# Altium footprint library Connector_PinSocket_2.00mm.PcbLib: 278 footprints (part 12 of 18)
Each footprint in its own frame and in the unit in brackets; x right, y up, seen from the top. Pads: shape width x height; smd on the part's side, far side on the other; paste and mask are expansions set on the pad; w line width, h text height; cw(c..) or ccw(c..) is an arc to the next point about the centre after c.
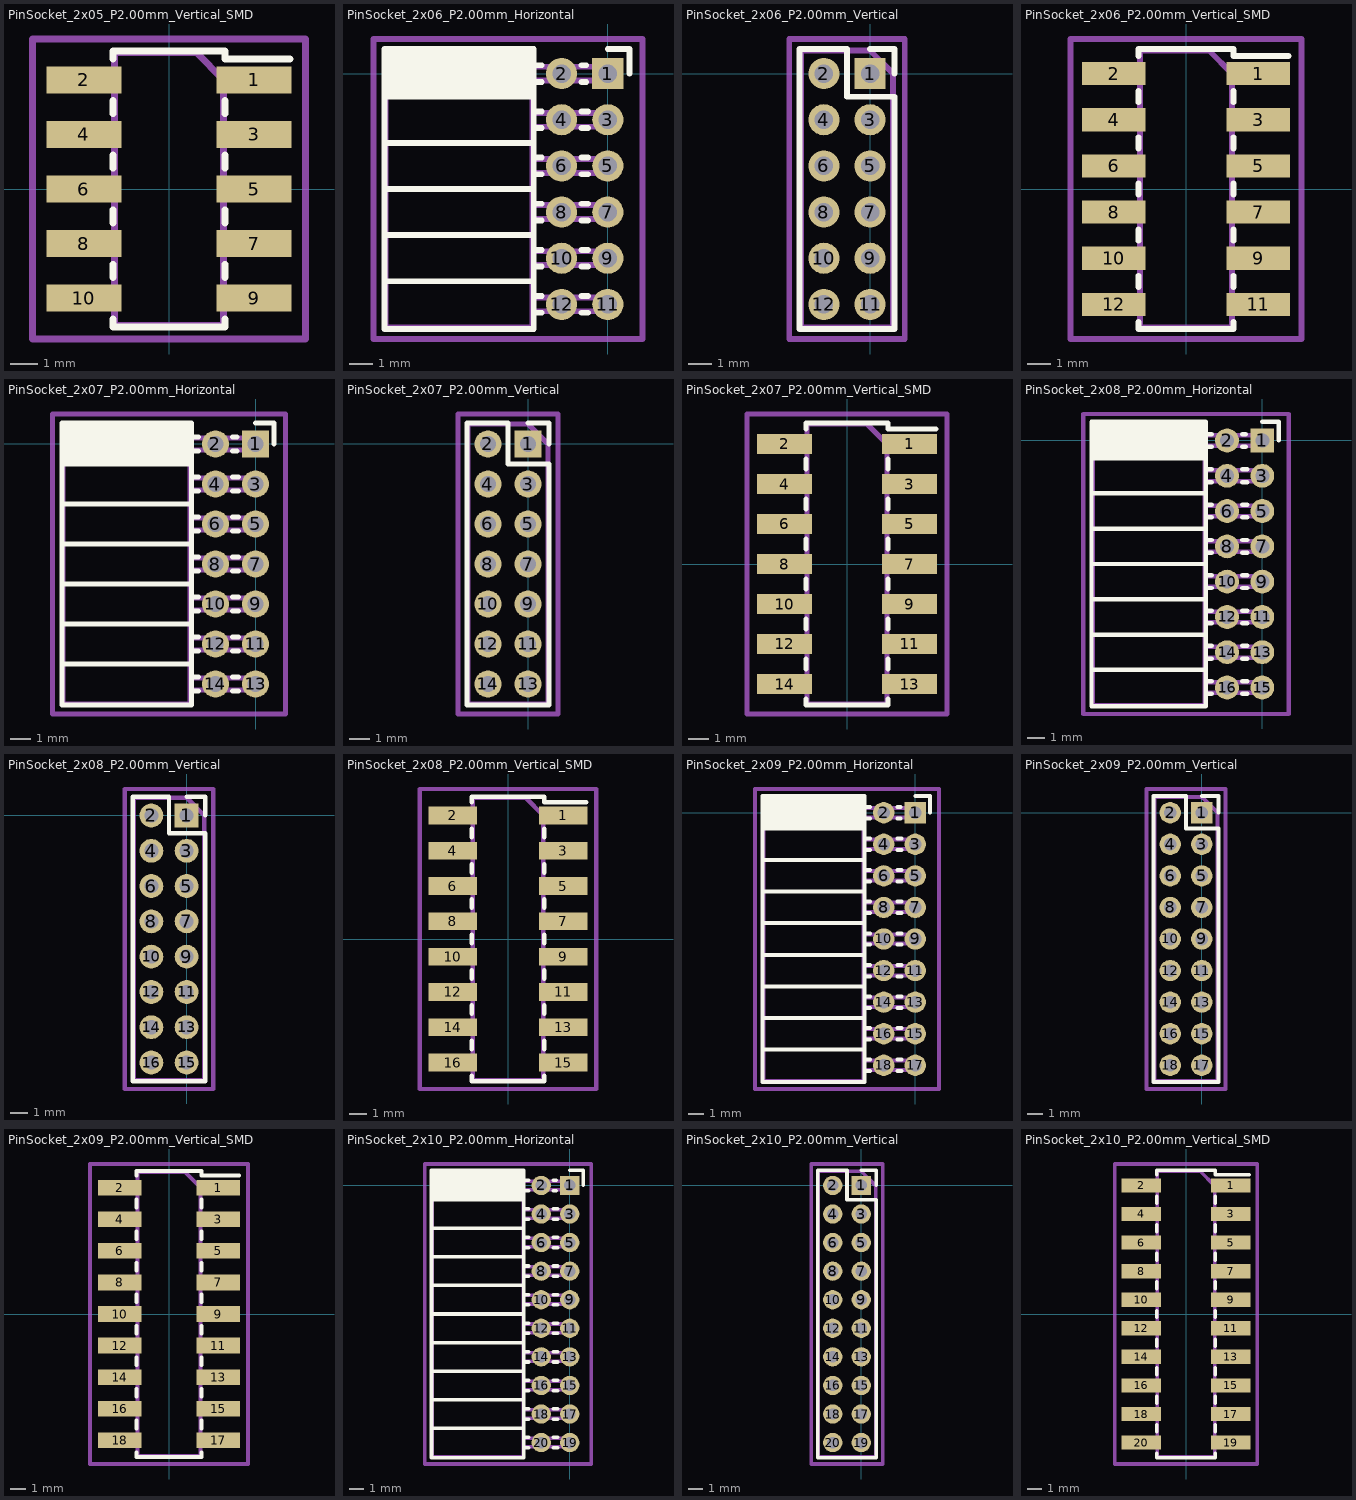
[diagram p11: the footprints below, top view; thin cyan lines are the x and y axes]

## PinSocket_2x05_P2.00mm_Vertical_SMD [mm]
pads (10):
  rect 2.75x1 smd: 1(3.125,4) 2(-3.125,4) 3(3.125,2) 4(-3.125,2) 5(3.125,0) 6(-3.125,0) 7(3.125,-2) 8(-3.125,-2) 9(3.125,-4) 10(-3.125,-4)
F.SilkS:
  lines w0.254: -2.06,-4.76 -2.06,-5.06 2.06,-5.06 2.06,-4.76 ; -2.06,-3.24 -2.06,-2.76 ; -2.06,-1.24 -2.06,-0.76 ; -2.06,0.76 -2.06,1.24 ; -2.06,2.76 -2.06,3.24 ; -2.06,4.76 -2.06,5.06 2.06,5.06 2.06,4.76 4.44,4.76 ; 2.06,-3.24 2.06,-2.76 ; 2.06,-1.24 2.06,-0.76 ; 2.06,0.76 2.06,1.24 ; 2.06,2.76 2.06,3.24
Top Assembly:
  lines w0.254: -2,-4.25 -3,-4.25 -3,-3.75 -2,-3.75 ; -2,-2.25 -3,-2.25 -3,-1.75 -2,-1.75 ; -2,-0.25 -3,-0.25 -3,0.25 -2,0.25 ; -2,1.75 -3,1.75 -3,2.25 -2,2.25 ; -2,3.75 -3,3.75 -3,4.25 -2,4.25 ; 2,-4.25 3,-4.25 3,-3.75 2,-3.75 ; 2,-2.25 3,-2.25 3,-1.75 2,-1.75 ; 2,-0.25 3,-0.25 3,0.25 2,0.25 ; 2,1.75 3,1.75 3,2.25 2,2.25 ; 2,3.75 3,3.75 3,4.25 2,4.25 ; -2,-5 2,-5 2,4 1,5 -2,5 -2,-5
  text "'.Designator'" at 0.84,-4.047 h1
Top Courtyard:
  lines w0.254: -5,-5.5 5,-5.5 5,5.5 -5,5.5 -5,-5.5
Top Designator:
  text ".Designator" at -7.618,-0.508 h1.52

## PinSocket_2x06_P2.00mm_Horizontal [mm]
pads (12):
  rect 1.35x1.35 hole 0.8: 1(0,0)
  round 1.35 hole 0.8: 2(-2,0) 3(0,-2) 4(-2,-2) 5(0,-4) 6(-2,-4) 7(0,-6) 8(-2,-6) 9(0,-8) 10(-2,-8) 11(0,-10) 12(-2,-10)
F.SilkS:
  lines w0.254: -9.68,-9 -3.21,-9 ; -9.68,-7 -3.21,-7 ; -9.68,-5 -3.21,-5 ; -9.68,-3 -3.21,-3 ; -9.68,-1 -3.21,-1 ; -9.68,-0.886 -3.21,-0.886 ; -9.68,-0.772 -3.21,-0.772 ; -9.68,-0.658 -3.21,-0.658 ; -9.68,-0.544 -3.21,-0.544 ; -9.68,-0.429 -3.21,-0.429 ; -9.68,-0.315 -3.21,-0.315 ; -9.68,-0.201 -3.21,-0.201 ; -9.68,-0.087 -3.21,-0.087 ; -9.68,0.027 -3.21,0.027 ; -9.68,0.141 -3.21,0.141 ; -9.68,0.255 -3.21,0.255 ; -9.68,0.369 -3.21,0.369 ; -9.68,0.484 -3.21,0.484 ; -9.68,0.598 -3.21,0.598 ; -9.68,0.712 -3.21,0.712 ; -9.68,0.826 -3.21,0.826 ; -9.68,0.94 -3.21,0.94 ; -3.21,-10.36 -2.863,-10.36 ; -3.21,-9.64 -2.863,-9.64 ; -3.21,-8.36 -2.863,-8.36 ; -3.21,-7.64 -2.863,-7.64 ; -3.21,-6.36 -2.863,-6.36 ; -3.21,-5.64 -2.863,-5.64 ; -3.21,-4.36 -2.863,-4.36 ; -3.21,-3.64 -2.863,-3.64 ; -3.21,-2.36 -2.863,-2.36 ; -3.21,-1.64 -2.863,-1.64 ; -3.21,-0.36 -2.863,-0.36 ; -3.21,0.36 -2.863,0.36 ; -1.137,-10.36 -0.863,-10.36 ; -1.137,-9.64 -0.863,-9.64 ; -1.137,-8.36 -0.863,-8.36 ; -1.137,-7.64 -0.863,-7.64 ; -1.137,-6.36 -0.863,-6.36 ; -1.137,-5.64 -0.863,-5.64 ; -1.137,-4.36 -0.863,-4.36 ; -1.137,-3.64 -0.863,-3.64 ; -1.137,-2.36 -0.863,-2.36 ; -1.137,-1.64 -0.863,-1.64 ; -1.137,-0.36 -0.935,-0.36 ; -1.137,0.36 -0.935,0.36 ; 0,1.06 0.935,1.06 0.935,0 ; -9.68,-11.06 -3.21,-11.06 -3.21,1.06 -9.68,1.06 -9.68,-11.06
Top Assembly:
  lines w0.254: -3.27,-10.3 0,-10.3 0,-9.7 -3.27,-9.7 ; -3.27,-8.3 0,-8.3 0,-7.7 -3.27,-7.7 ; -3.27,-6.3 0,-6.3 0,-5.7 -3.27,-5.7 ; -3.27,-4.3 0,-4.3 0,-3.7 -3.27,-3.7 ; -3.27,-2.3 0,-2.3 0,-1.7 -3.27,-1.7 ; -3.27,-0.3 0,-0.3 0,0.3 -3.27,0.3 ; -3.27,0.3 -3.27,-11 -9.62,-11 -9.62,1 -3.97,1 -3.27,0.3
  text "'.Designator'" at -5.605,-9.047 h1
Top Courtyard:
  lines w0.254: -10.15,-11.5 1.5,-11.5 1.5,1.5 -10.15,1.5 -10.15,-11.5
Top Designator:
  text ".Designator" at -11.943,-5.508 h1.52

## PinSocket_2x06_P2.00mm_Vertical [mm]
pads (12):
  rect 1.35x1.35 hole 0.8: 1(0,0)
  round 1.35 hole 0.8: 2(-2,0) 3(0,-2) 4(-2,-2) 5(0,-4) 6(-2,-4) 7(0,-6) 8(-2,-6) 9(0,-8) 10(-2,-8) 11(0,-10) 12(-2,-10)
F.SilkS:
  lines w0.254: 0,1.06 1.06,1.06 1.06,0 ; -3.06,-11.06 1.06,-11.06 1.06,-1 -1,-1 -1,1.06 -3.06,1.06 -3.06,-11.06
Top Assembly:
  lines w0.254: -3,-11 1,-11 1,0 0,1 -3,1 -3,-11
  text "'.Designator'" at -0.16,-9.047 h1
Top Courtyard:
  lines w0.254: -3.5,-11.5 1.5,-11.5 1.5,1.5 -3.5,1.5 -3.5,-11.5
Top Designator:
  text ".Designator" at -8.618,-5.508 h1.52

## PinSocket_2x06_P2.00mm_Vertical_SMD [mm]
pads (12):
  rect 2.75x1 smd: 1(3.125,5) 2(-3.125,5) 3(3.125,3) 4(-3.125,3) 5(3.125,1) 6(-3.125,1) 7(3.125,-1) 8(-3.125,-1) 9(3.125,-3) 10(-3.125,-3) 11(3.125,-5) 12(-3.125,-5)
F.SilkS:
  lines w0.254: -2.06,-5.76 -2.06,-6.06 2.06,-6.06 2.06,-5.76 ; -2.06,-4.24 -2.06,-3.76 ; -2.06,-2.24 -2.06,-1.76 ; -2.06,-0.24 -2.06,0.24 ; -2.06,1.76 -2.06,2.24 ; -2.06,3.76 -2.06,4.24 ; -2.06,5.76 -2.06,6.06 2.06,6.06 2.06,5.76 4.44,5.76 ; 2.06,-4.24 2.06,-3.76 ; 2.06,-2.24 2.06,-1.76 ; 2.06,-0.24 2.06,0.24 ; 2.06,1.76 2.06,2.24 ; 2.06,3.76 2.06,4.24
Top Assembly:
  lines w0.254: -2,-5.25 -3,-5.25 -3,-4.75 -2,-4.75 ; -2,-3.25 -3,-3.25 -3,-2.75 -2,-2.75 ; -2,-1.25 -3,-1.25 -3,-0.75 -2,-0.75 ; -2,0.75 -3,0.75 -3,1.25 -2,1.25 ; -2,2.75 -3,2.75 -3,3.25 -2,3.25 ; -2,4.75 -3,4.75 -3,5.25 -2,5.25 ; 2,-5.25 3,-5.25 3,-4.75 2,-4.75 ; 2,-3.25 3,-3.25 3,-2.75 2,-2.75 ; 2,-1.25 3,-1.25 3,-0.75 2,-0.75 ; 2,0.75 3,0.75 3,1.25 2,1.25 ; 2,2.75 3,2.75 3,3.25 2,3.25 ; 2,4.75 3,4.75 3,5.25 2,5.25 ; -2,-6 2,-6 2,5 1,6 -2,6 -2,-6
  text "'.Designator'" at 0.84,-4.047 h1
Top Courtyard:
  lines w0.254: -5,-6.5 5,-6.5 5,6.5 -5,6.5 -5,-6.5
Top Designator:
  text ".Designator" at -7.618,-0.508 h1.52

## PinSocket_2x07_P2.00mm_Horizontal [mm]
pads (14):
  rect 1.35x1.35 hole 0.8: 1(0,0)
  round 1.35 hole 0.8: 2(-2,0) 3(0,-2) 4(-2,-2) 5(0,-4) 6(-2,-4) 7(0,-6) 8(-2,-6) 9(0,-8) 10(-2,-8) 11(0,-10) 12(-2,-10) 13(0,-12) 14(-2,-12)
F.SilkS:
  lines w0.254: -9.68,-11 -3.21,-11 ; -9.68,-9 -3.21,-9 ; -9.68,-7 -3.21,-7 ; -9.68,-5 -3.21,-5 ; -9.68,-3 -3.21,-3 ; -9.68,-1 -3.21,-1 ; -9.68,-0.886 -3.21,-0.886 ; -9.68,-0.772 -3.21,-0.772 ; -9.68,-0.658 -3.21,-0.658 ; -9.68,-0.544 -3.21,-0.544 ; -9.68,-0.429 -3.21,-0.429 ; -9.68,-0.315 -3.21,-0.315 ; -9.68,-0.201 -3.21,-0.201 ; -9.68,-0.087 -3.21,-0.087 ; -9.68,0.027 -3.21,0.027 ; -9.68,0.141 -3.21,0.141 ; -9.68,0.255 -3.21,0.255 ; -9.68,0.369 -3.21,0.369 ; -9.68,0.484 -3.21,0.484 ; -9.68,0.598 -3.21,0.598 ; -9.68,0.712 -3.21,0.712 ; -9.68,0.826 -3.21,0.826 ; -9.68,0.94 -3.21,0.94 ; -3.21,-12.36 -2.863,-12.36 ; -3.21,-11.64 -2.863,-11.64 ; -3.21,-10.36 -2.863,-10.36 ; -3.21,-9.64 -2.863,-9.64 ; -3.21,-8.36 -2.863,-8.36 ; -3.21,-7.64 -2.863,-7.64 ; -3.21,-6.36 -2.863,-6.36 ; -3.21,-5.64 -2.863,-5.64 ; -3.21,-4.36 -2.863,-4.36 ; -3.21,-3.64 -2.863,-3.64 ; -3.21,-2.36 -2.863,-2.36 ; -3.21,-1.64 -2.863,-1.64 ; -3.21,-0.36 -2.863,-0.36 ; -3.21,0.36 -2.863,0.36 ; -1.137,-12.36 -0.863,-12.36 ; -1.137,-11.64 -0.863,-11.64 ; -1.137,-10.36 -0.863,-10.36 ; -1.137,-9.64 -0.863,-9.64 ; -1.137,-8.36 -0.863,-8.36 ; -1.137,-7.64 -0.863,-7.64 ; -1.137,-6.36 -0.863,-6.36 ; -1.137,-5.64 -0.863,-5.64 ; -1.137,-4.36 -0.863,-4.36 ; -1.137,-3.64 -0.863,-3.64 ; -1.137,-2.36 -0.863,-2.36 ; -1.137,-1.64 -0.863,-1.64 ; -1.137,-0.36 -0.935,-0.36 ; -1.137,0.36 -0.935,0.36 ; 0,1.06 0.935,1.06 0.935,0 ; -9.68,-13.06 -3.21,-13.06 -3.21,1.06 -9.68,1.06 -9.68,-13.06
Top Assembly:
  lines w0.254: -3.27,-12.3 0,-12.3 0,-11.7 -3.27,-11.7 ; -3.27,-10.3 0,-10.3 0,-9.7 -3.27,-9.7 ; -3.27,-8.3 0,-8.3 0,-7.7 -3.27,-7.7 ; -3.27,-6.3 0,-6.3 0,-5.7 -3.27,-5.7 ; -3.27,-4.3 0,-4.3 0,-3.7 -3.27,-3.7 ; -3.27,-2.3 0,-2.3 0,-1.7 -3.27,-1.7 ; -3.27,-0.3 0,-0.3 0,0.3 -3.27,0.3 ; -3.27,0.3 -3.27,-13 -9.62,-13 -9.62,1 -3.97,1 -3.27,0.3
  text "'.Designator'" at -5.605,-10.047 h1
Top Courtyard:
  lines w0.254: -10.15,-13.5 1.5,-13.5 1.5,1.5 -10.15,1.5 -10.15,-13.5
Top Designator:
  text ".Designator" at -11.943,-6.508 h1.52

## PinSocket_2x07_P2.00mm_Vertical [mm]
pads (14):
  rect 1.35x1.35 hole 0.8: 1(0,0)
  round 1.35 hole 0.8: 2(-2,0) 3(0,-2) 4(-2,-2) 5(0,-4) 6(-2,-4) 7(0,-6) 8(-2,-6) 9(0,-8) 10(-2,-8) 11(0,-10) 12(-2,-10) 13(0,-12) 14(-2,-12)
F.SilkS:
  lines w0.254: 0,1.06 1.06,1.06 1.06,0 ; -3.06,-13.06 1.06,-13.06 1.06,-1 -1,-1 -1,1.06 -3.06,1.06 -3.06,-13.06
Top Assembly:
  lines w0.254: -3,-13 1,-13 1,0 0,1 -3,1 -3,-13
  text "'.Designator'" at -0.16,-10.047 h1
Top Courtyard:
  lines w0.254: -3.5,-13.5 1.5,-13.5 1.5,1.5 -3.5,1.5 -3.5,-13.5
Top Designator:
  text ".Designator" at -8.618,-6.508 h1.52

## PinSocket_2x07_P2.00mm_Vertical_SMD [mm]
pads (14):
  rect 2.75x1 smd: 1(3.125,6) 2(-3.125,6) 3(3.125,4) 4(-3.125,4) 5(3.125,2) 6(-3.125,2) 7(3.125,0) 8(-3.125,0) 9(3.125,-2) 10(-3.125,-2) 11(3.125,-4) 12(-3.125,-4) 13(3.125,-6) 14(-3.125,-6)
F.SilkS:
  lines w0.254: -2.06,-6.76 -2.06,-7.06 2.06,-7.06 2.06,-6.76 ; -2.06,-5.24 -2.06,-4.76 ; -2.06,-3.24 -2.06,-2.76 ; -2.06,-1.24 -2.06,-0.76 ; -2.06,0.76 -2.06,1.24 ; -2.06,2.76 -2.06,3.24 ; -2.06,4.76 -2.06,5.24 ; -2.06,6.76 -2.06,7.06 2.06,7.06 2.06,6.76 4.44,6.76 ; 2.06,-5.24 2.06,-4.76 ; 2.06,-3.24 2.06,-2.76 ; 2.06,-1.24 2.06,-0.76 ; 2.06,0.76 2.06,1.24 ; 2.06,2.76 2.06,3.24 ; 2.06,4.76 2.06,5.24
Top Assembly:
  lines w0.254: -2,-6.25 -3,-6.25 -3,-5.75 -2,-5.75 ; -2,-4.25 -3,-4.25 -3,-3.75 -2,-3.75 ; -2,-2.25 -3,-2.25 -3,-1.75 -2,-1.75 ; -2,-0.25 -3,-0.25 -3,0.25 -2,0.25 ; -2,1.75 -3,1.75 -3,2.25 -2,2.25 ; -2,3.75 -3,3.75 -3,4.25 -2,4.25 ; -2,5.75 -3,5.75 -3,6.25 -2,6.25 ; 2,-6.25 3,-6.25 3,-5.75 2,-5.75 ; 2,-4.25 3,-4.25 3,-3.75 2,-3.75 ; 2,-2.25 3,-2.25 3,-1.75 2,-1.75 ; 2,-0.25 3,-0.25 3,0.25 2,0.25 ; 2,1.75 3,1.75 3,2.25 2,2.25 ; 2,3.75 3,3.75 3,4.25 2,4.25 ; 2,5.75 3,5.75 3,6.25 2,6.25 ; -2,-7 2,-7 2,6 1,7 -2,7 -2,-7
  text "'.Designator'" at 0.84,-4.047 h1
Top Courtyard:
  lines w0.254: -5,-7.5 5,-7.5 5,7.5 -5,7.5 -5,-7.5
Top Designator:
  text ".Designator" at -7.618,-0.508 h1.52

## PinSocket_2x08_P2.00mm_Horizontal [mm]
pads (16):
  rect 1.35x1.35 hole 0.8: 1(0,0)
  round 1.35 hole 0.8: 2(-2,0) 3(0,-2) 4(-2,-2) 5(0,-4) 6(-2,-4) 7(0,-6) 8(-2,-6) 9(0,-8) 10(-2,-8) 11(0,-10) 12(-2,-10) 13(0,-12) 14(-2,-12) 15(0,-14) 16(-2,-14)
F.SilkS:
  lines w0.254: -9.68,-13 -3.21,-13 ; -9.68,-11 -3.21,-11 ; -9.68,-9 -3.21,-9 ; -9.68,-7 -3.21,-7 ; -9.68,-5 -3.21,-5 ; -9.68,-3 -3.21,-3 ; -9.68,-1 -3.21,-1 ; -9.68,-0.886 -3.21,-0.886 ; -9.68,-0.772 -3.21,-0.772 ; -9.68,-0.658 -3.21,-0.658 ; -9.68,-0.544 -3.21,-0.544 ; -9.68,-0.429 -3.21,-0.429 ; -9.68,-0.315 -3.21,-0.315 ; -9.68,-0.201 -3.21,-0.201 ; -9.68,-0.087 -3.21,-0.087 ; -9.68,0.027 -3.21,0.027 ; -9.68,0.141 -3.21,0.141 ; -9.68,0.255 -3.21,0.255 ; -9.68,0.369 -3.21,0.369 ; -9.68,0.484 -3.21,0.484 ; -9.68,0.598 -3.21,0.598 ; -9.68,0.712 -3.21,0.712 ; -9.68,0.826 -3.21,0.826 ; -9.68,0.94 -3.21,0.94 ; -3.21,-14.36 -2.863,-14.36 ; -3.21,-13.64 -2.863,-13.64 ; -3.21,-12.36 -2.863,-12.36 ; -3.21,-11.64 -2.863,-11.64 ; -3.21,-10.36 -2.863,-10.36 ; -3.21,-9.64 -2.863,-9.64 ; -3.21,-8.36 -2.863,-8.36 ; -3.21,-7.64 -2.863,-7.64 ; -3.21,-6.36 -2.863,-6.36 ; -3.21,-5.64 -2.863,-5.64 ; -3.21,-4.36 -2.863,-4.36 ; -3.21,-3.64 -2.863,-3.64 ; -3.21,-2.36 -2.863,-2.36 ; -3.21,-1.64 -2.863,-1.64 ; -3.21,-0.36 -2.863,-0.36 ; -3.21,0.36 -2.863,0.36 ; -1.137,-14.36 -0.863,-14.36 ; -1.137,-13.64 -0.863,-13.64 ; -1.137,-12.36 -0.863,-12.36 ; -1.137,-11.64 -0.863,-11.64 ; -1.137,-10.36 -0.863,-10.36 ; -1.137,-9.64 -0.863,-9.64 ; -1.137,-8.36 -0.863,-8.36 ; -1.137,-7.64 -0.863,-7.64 ; -1.137,-6.36 -0.863,-6.36 ; -1.137,-5.64 -0.863,-5.64 ; -1.137,-4.36 -0.863,-4.36 ; -1.137,-3.64 -0.863,-3.64 ; -1.137,-2.36 -0.863,-2.36 ; -1.137,-1.64 -0.863,-1.64 ; -1.137,-0.36 -0.935,-0.36 ; -1.137,0.36 -0.935,0.36 ; 0,1.06 0.935,1.06 0.935,0 ; -9.68,-15.06 -3.21,-15.06 -3.21,1.06 -9.68,1.06 -9.68,-15.06
Top Assembly:
  lines w0.254: -3.27,-14.3 0,-14.3 0,-13.7 -3.27,-13.7 ; -3.27,-12.3 0,-12.3 0,-11.7 -3.27,-11.7 ; -3.27,-10.3 0,-10.3 0,-9.7 -3.27,-9.7 ; -3.27,-8.3 0,-8.3 0,-7.7 -3.27,-7.7 ; -3.27,-6.3 0,-6.3 0,-5.7 -3.27,-5.7 ; -3.27,-4.3 0,-4.3 0,-3.7 -3.27,-3.7 ; -3.27,-2.3 0,-2.3 0,-1.7 -3.27,-1.7 ; -3.27,-0.3 0,-0.3 0,0.3 -3.27,0.3 ; -3.27,0.3 -3.27,-15 -9.62,-15 -9.62,1 -3.97,1 -3.27,0.3
  text "'.Designator'" at -5.605,-11.047 h1
Top Courtyard:
  lines w0.254: -10.15,-15.5 1.5,-15.5 1.5,1.5 -10.15,1.5 -10.15,-15.5
Top Designator:
  text ".Designator" at -11.943,-7.508 h1.52

## PinSocket_2x08_P2.00mm_Vertical [mm]
pads (16):
  rect 1.35x1.35 hole 0.8: 1(0,0)
  round 1.35 hole 0.8: 2(-2,0) 3(0,-2) 4(-2,-2) 5(0,-4) 6(-2,-4) 7(0,-6) 8(-2,-6) 9(0,-8) 10(-2,-8) 11(0,-10) 12(-2,-10) 13(0,-12) 14(-2,-12) 15(0,-14) 16(-2,-14)
F.SilkS:
  lines w0.254: 0,1.06 1.06,1.06 1.06,0 ; -3.06,-15.06 1.06,-15.06 1.06,-1 -1,-1 -1,1.06 -3.06,1.06 -3.06,-15.06
Top Assembly:
  lines w0.254: -3,-15 1,-15 1,0 0,1 -3,1 -3,-15
  text "'.Designator'" at -0.16,-11.047 h1
Top Courtyard:
  lines w0.254: -3.5,-15.5 1.5,-15.5 1.5,1.5 -3.5,1.5 -3.5,-15.5
Top Designator:
  text ".Designator" at -8.618,-7.508 h1.52

## PinSocket_2x08_P2.00mm_Vertical_SMD [mm]
pads (16):
  rect 2.75x1 smd: 1(3.125,7) 2(-3.125,7) 3(3.125,5) 4(-3.125,5) 5(3.125,3) 6(-3.125,3) 7(3.125,1) 8(-3.125,1) 9(3.125,-1) 10(-3.125,-1) 11(3.125,-3) 12(-3.125,-3) 13(3.125,-5) 14(-3.125,-5) 15(3.125,-7) 16(-3.125,-7)
F.SilkS:
  lines w0.254: -2.06,-7.76 -2.06,-8.06 2.06,-8.06 2.06,-7.76 ; -2.06,-6.24 -2.06,-5.76 ; -2.06,-4.24 -2.06,-3.76 ; -2.06,-2.24 -2.06,-1.76 ; -2.06,-0.24 -2.06,0.24 ; -2.06,1.76 -2.06,2.24 ; -2.06,3.76 -2.06,4.24 ; -2.06,5.76 -2.06,6.24 ; -2.06,7.76 -2.06,8.06 2.06,8.06 2.06,7.76 4.44,7.76 ; 2.06,-6.24 2.06,-5.76 ; 2.06,-4.24 2.06,-3.76 ; 2.06,-2.24 2.06,-1.76 ; 2.06,-0.24 2.06,0.24 ; 2.06,1.76 2.06,2.24 ; 2.06,3.76 2.06,4.24 ; 2.06,5.76 2.06,6.24
Top Assembly:
  lines w0.254: -2,-7.25 -3,-7.25 -3,-6.75 -2,-6.75 ; -2,-5.25 -3,-5.25 -3,-4.75 -2,-4.75 ; -2,-3.25 -3,-3.25 -3,-2.75 -2,-2.75 ; -2,-1.25 -3,-1.25 -3,-0.75 -2,-0.75 ; -2,0.75 -3,0.75 -3,1.25 -2,1.25 ; -2,2.75 -3,2.75 -3,3.25 -2,3.25 ; -2,4.75 -3,4.75 -3,5.25 -2,5.25 ; -2,6.75 -3,6.75 -3,7.25 -2,7.25 ; 2,-7.25 3,-7.25 3,-6.75 2,-6.75 ; 2,-5.25 3,-5.25 3,-4.75 2,-4.75 ; 2,-3.25 3,-3.25 3,-2.75 2,-2.75 ; 2,-1.25 3,-1.25 3,-0.75 2,-0.75 ; 2,0.75 3,0.75 3,1.25 2,1.25 ; 2,2.75 3,2.75 3,3.25 2,3.25 ; 2,4.75 3,4.75 3,5.25 2,5.25 ; 2,6.75 3,6.75 3,7.25 2,7.25 ; -2,-8 2,-8 2,7 1,8 -2,8 -2,-8
  text "'.Designator'" at 0.84,-4.047 h1
Top Courtyard:
  lines w0.254: -5,-8.5 5,-8.5 5,8.5 -5,8.5 -5,-8.5
Top Designator:
  text ".Designator" at -7.618,-0.508 h1.52

## PinSocket_2x09_P2.00mm_Horizontal [mm]
pads (18):
  rect 1.35x1.35 hole 0.8: 1(0,0)
  round 1.35 hole 0.8: 2(-2,0) 3(0,-2) 4(-2,-2) 5(0,-4) 6(-2,-4) 7(0,-6) 8(-2,-6) 9(0,-8) 10(-2,-8) 11(0,-10) 12(-2,-10) 13(0,-12) 14(-2,-12) 15(0,-14) 16(-2,-14) 17(0,-16) 18(-2,-16)
F.SilkS:
  lines w0.254: -9.68,-15 -3.21,-15 ; -9.68,-13 -3.21,-13 ; -9.68,-11 -3.21,-11 ; -9.68,-9 -3.21,-9 ; -9.68,-7 -3.21,-7 ; -9.68,-5 -3.21,-5 ; -9.68,-3 -3.21,-3 ; -9.68,-1 -3.21,-1 ; -9.68,-0.886 -3.21,-0.886 ; -9.68,-0.772 -3.21,-0.772 ; -9.68,-0.658 -3.21,-0.658 ; -9.68,-0.544 -3.21,-0.544 ; -9.68,-0.429 -3.21,-0.429 ; -9.68,-0.315 -3.21,-0.315 ; -9.68,-0.201 -3.21,-0.201 ; -9.68,-0.087 -3.21,-0.087 ; -9.68,0.027 -3.21,0.027 ; -9.68,0.141 -3.21,0.141 ; -9.68,0.255 -3.21,0.255 ; -9.68,0.369 -3.21,0.369 ; -9.68,0.484 -3.21,0.484 ; -9.68,0.598 -3.21,0.598 ; -9.68,0.712 -3.21,0.712 ; -9.68,0.826 -3.21,0.826 ; -9.68,0.94 -3.21,0.94 ; -3.21,-16.36 -2.863,-16.36 ; -3.21,-15.64 -2.863,-15.64 ; -3.21,-14.36 -2.863,-14.36 ; -3.21,-13.64 -2.863,-13.64 ; -3.21,-12.36 -2.863,-12.36 ; -3.21,-11.64 -2.863,-11.64 ; -3.21,-10.36 -2.863,-10.36 ; -3.21,-9.64 -2.863,-9.64 ; -3.21,-8.36 -2.863,-8.36 ; -3.21,-7.64 -2.863,-7.64 ; -3.21,-6.36 -2.863,-6.36 ; -3.21,-5.64 -2.863,-5.64 ; -3.21,-4.36 -2.863,-4.36 ; -3.21,-3.64 -2.863,-3.64 ; -3.21,-2.36 -2.863,-2.36 ; -3.21,-1.64 -2.863,-1.64 ; -3.21,-0.36 -2.863,-0.36 ; -3.21,0.36 -2.863,0.36 ; -1.137,-16.36 -0.863,-16.36 ; -1.137,-15.64 -0.863,-15.64 ; -1.137,-14.36 -0.863,-14.36 ; -1.137,-13.64 -0.863,-13.64 ; -1.137,-12.36 -0.863,-12.36 ; -1.137,-11.64 -0.863,-11.64 ; -1.137,-10.36 -0.863,-10.36 ; -1.137,-9.64 -0.863,-9.64 ; -1.137,-8.36 -0.863,-8.36 ; -1.137,-7.64 -0.863,-7.64 ; -1.137,-6.36 -0.863,-6.36 ; -1.137,-5.64 -0.863,-5.64 ; -1.137,-4.36 -0.863,-4.36 ; -1.137,-3.64 -0.863,-3.64 ; -1.137,-2.36 -0.863,-2.36 ; -1.137,-1.64 -0.863,-1.64 ; -1.137,-0.36 -0.935,-0.36 ; -1.137,0.36 -0.935,0.36 ; 0,1.06 0.935,1.06 0.935,0 ; -9.68,-17.06 -3.21,-17.06 -3.21,1.06 -9.68,1.06 -9.68,-17.06
Top Assembly:
  lines w0.254: -3.27,-16.3 0,-16.3 0,-15.7 -3.27,-15.7 ; -3.27,-14.3 0,-14.3 0,-13.7 -3.27,-13.7 ; -3.27,-12.3 0,-12.3 0,-11.7 -3.27,-11.7 ; -3.27,-10.3 0,-10.3 0,-9.7 -3.27,-9.7 ; -3.27,-8.3 0,-8.3 0,-7.7 -3.27,-7.7 ; -3.27,-6.3 0,-6.3 0,-5.7 -3.27,-5.7 ; -3.27,-4.3 0,-4.3 0,-3.7 -3.27,-3.7 ; -3.27,-2.3 0,-2.3 0,-1.7 -3.27,-1.7 ; -3.27,-0.3 0,-0.3 0,0.3 -3.27,0.3 ; -3.27,0.3 -3.27,-17 -9.62,-17 -9.62,1 -3.97,1 -3.27,0.3
  text "'.Designator'" at -5.605,-12.047 h1
Top Courtyard:
  lines w0.254: -10.15,-17.5 1.5,-17.5 1.5,1.5 -10.15,1.5 -10.15,-17.5
Top Designator:
  text ".Designator" at -11.943,-8.508 h1.52

## PinSocket_2x09_P2.00mm_Vertical [mm]
pads (18):
  rect 1.35x1.35 hole 0.8: 1(0,0)
  round 1.35 hole 0.8: 2(-2,0) 3(0,-2) 4(-2,-2) 5(0,-4) 6(-2,-4) 7(0,-6) 8(-2,-6) 9(0,-8) 10(-2,-8) 11(0,-10) 12(-2,-10) 13(0,-12) 14(-2,-12) 15(0,-14) 16(-2,-14) 17(0,-16) 18(-2,-16)
F.SilkS:
  lines w0.254: 0,1.06 1.06,1.06 1.06,0 ; -3.06,-17.06 1.06,-17.06 1.06,-1 -1,-1 -1,1.06 -3.06,1.06 -3.06,-17.06
Top Assembly:
  lines w0.254: -3,-17 1,-17 1,0 0,1 -3,1 -3,-17
  text "'.Designator'" at -0.16,-12.047 h1
Top Courtyard:
  lines w0.254: -3.5,-17.5 1.5,-17.5 1.5,1.5 -3.5,1.5 -3.5,-17.5
Top Designator:
  text ".Designator" at -8.618,-8.508 h1.52

## PinSocket_2x09_P2.00mm_Vertical_SMD [mm]
pads (18):
  rect 2.75x1 smd: 1(3.125,8) 2(-3.125,8) 3(3.125,6) 4(-3.125,6) 5(3.125,4) 6(-3.125,4) 7(3.125,2) 8(-3.125,2) 9(3.125,0) 10(-3.125,0) 11(3.125,-2) 12(-3.125,-2) 13(3.125,-4) 14(-3.125,-4) 15(3.125,-6) 16(-3.125,-6) 17(3.125,-8) 18(-3.125,-8)
F.SilkS:
  lines w0.254: -2.06,-8.76 -2.06,-9.06 2.06,-9.06 2.06,-8.76 ; -2.06,-7.24 -2.06,-6.76 ; -2.06,-5.24 -2.06,-4.76 ; -2.06,-3.24 -2.06,-2.76 ; -2.06,-1.24 -2.06,-0.76 ; -2.06,0.76 -2.06,1.24 ; -2.06,2.76 -2.06,3.24 ; -2.06,4.76 -2.06,5.24 ; -2.06,6.76 -2.06,7.24 ; -2.06,8.76 -2.06,9.06 2.06,9.06 2.06,8.76 4.44,8.76 ; 2.06,-7.24 2.06,-6.76 ; 2.06,-5.24 2.06,-4.76 ; 2.06,-3.24 2.06,-2.76 ; 2.06,-1.24 2.06,-0.76 ; 2.06,0.76 2.06,1.24 ; 2.06,2.76 2.06,3.24 ; 2.06,4.76 2.06,5.24 ; 2.06,6.76 2.06,7.24
Top Assembly:
  lines w0.254: -2,-8.25 -3,-8.25 -3,-7.75 -2,-7.75 ; -2,-6.25 -3,-6.25 -3,-5.75 -2,-5.75 ; -2,-4.25 -3,-4.25 -3,-3.75 -2,-3.75 ; -2,-2.25 -3,-2.25 -3,-1.75 -2,-1.75 ; -2,-0.25 -3,-0.25 -3,0.25 -2,0.25 ; -2,1.75 -3,1.75 -3,2.25 -2,2.25 ; -2,3.75 -3,3.75 -3,4.25 -2,4.25 ; -2,5.75 -3,5.75 -3,6.25 -2,6.25 ; -2,7.75 -3,7.75 -3,8.25 -2,8.25 ; 2,-8.25 3,-8.25 3,-7.75 2,-7.75 ; 2,-6.25 3,-6.25 3,-5.75 2,-5.75 ; 2,-4.25 3,-4.25 3,-3.75 2,-3.75 ; 2,-2.25 3,-2.25 3,-1.75 2,-1.75 ; 2,-0.25 3,-0.25 3,0.25 2,0.25 ; 2,1.75 3,1.75 3,2.25 2,2.25 ; 2,3.75 3,3.75 3,4.25 2,4.25 ; 2,5.75 3,5.75 3,6.25 2,6.25 ; 2,7.75 3,7.75 3,8.25 2,8.25 ; -2,-9 2,-9 2,8 1,9 -2,9 -2,-9
  text "'.Designator'" at 0.84,-4.047 h1
Top Courtyard:
  lines w0.254: -5,-9.5 5,-9.5 5,9.5 -5,9.5 -5,-9.5
Top Designator:
  text ".Designator" at -7.618,-0.508 h1.52

## PinSocket_2x10_P2.00mm_Horizontal [mm]
pads (20):
  rect 1.35x1.35 hole 0.8: 1(0,0)
  round 1.35 hole 0.8: 2(-2,0) 3(0,-2) 4(-2,-2) 5(0,-4) 6(-2,-4) 7(0,-6) 8(-2,-6) 9(0,-8) 10(-2,-8) 11(0,-10) 12(-2,-10) 13(0,-12) 14(-2,-12) 15(0,-14) 16(-2,-14) 17(0,-16) 18(-2,-16) 19(0,-18) 20(-2,-18)
F.SilkS:
  lines w0.254: -9.68,-17 -3.21,-17 ; -9.68,-15 -3.21,-15 ; -9.68,-13 -3.21,-13 ; -9.68,-11 -3.21,-11 ; -9.68,-9 -3.21,-9 ; -9.68,-7 -3.21,-7 ; -9.68,-5 -3.21,-5 ; -9.68,-3 -3.21,-3 ; -9.68,-1 -3.21,-1 ; -9.68,-0.886 -3.21,-0.886 ; -9.68,-0.772 -3.21,-0.772 ; -9.68,-0.658 -3.21,-0.658 ; -9.68,-0.544 -3.21,-0.544 ; -9.68,-0.429 -3.21,-0.429 ; -9.68,-0.315 -3.21,-0.315 ; -9.68,-0.201 -3.21,-0.201 ; -9.68,-0.087 -3.21,-0.087 ; -9.68,0.027 -3.21,0.027 ; -9.68,0.141 -3.21,0.141 ; -9.68,0.255 -3.21,0.255 ; -9.68,0.369 -3.21,0.369 ; -9.68,0.484 -3.21,0.484 ; -9.68,0.598 -3.21,0.598 ; -9.68,0.712 -3.21,0.712 ; -9.68,0.826 -3.21,0.826 ; -9.68,0.94 -3.21,0.94 ; -3.21,-18.36 -2.863,-18.36 ; -3.21,-17.64 -2.863,-17.64 ; -3.21,-16.36 -2.863,-16.36 ; -3.21,-15.64 -2.863,-15.64 ; -3.21,-14.36 -2.863,-14.36 ; -3.21,-13.64 -2.863,-13.64 ; -3.21,-12.36 -2.863,-12.36 ; -3.21,-11.64 -2.863,-11.64 ; -3.21,-10.36 -2.863,-10.36 ; -3.21,-9.64 -2.863,-9.64 ; -3.21,-8.36 -2.863,-8.36 ; -3.21,-7.64 -2.863,-7.64 ; -3.21,-6.36 -2.863,-6.36 ; -3.21,-5.64 -2.863,-5.64 ; -3.21,-4.36 -2.863,-4.36 ; -3.21,-3.64 -2.863,-3.64 ; -3.21,-2.36 -2.863,-2.36 ; -3.21,-1.64 -2.863,-1.64 ; -3.21,-0.36 -2.863,-0.36 ; -3.21,0.36 -2.863,0.36 ; -1.137,-18.36 -0.863,-18.36 ; -1.137,-17.64 -0.863,-17.64 ; -1.137,-16.36 -0.863,-16.36 ; -1.137,-15.64 -0.863,-15.64 ; -1.137,-14.36 -0.863,-14.36 ; -1.137,-13.64 -0.863,-13.64 ; -1.137,-12.36 -0.863,-12.36 ; -1.137,-11.64 -0.863,-11.64 ; -1.137,-10.36 -0.863,-10.36 ; -1.137,-9.64 -0.863,-9.64 ; -1.137,-8.36 -0.863,-8.36 ; -1.137,-7.64 -0.863,-7.64 ; -1.137,-6.36 -0.863,-6.36 ; -1.137,-5.64 -0.863,-5.64 ; -1.137,-4.36 -0.863,-4.36 ; -1.137,-3.64 -0.863,-3.64 ; -1.137,-2.36 -0.863,-2.36 ; -1.137,-1.64 -0.863,-1.64 ; -1.137,-0.36 -0.935,-0.36 ; -1.137,0.36 -0.935,0.36 ; 0,1.06 0.935,1.06 0.935,0 ; -9.68,-19.06 -3.21,-19.06 -3.21,1.06 -9.68,1.06 -9.68,-19.06
Top Assembly:
  lines w0.254: -3.27,-18.3 0,-18.3 0,-17.7 -3.27,-17.7 ; -3.27,-16.3 0,-16.3 0,-15.7 -3.27,-15.7 ; -3.27,-14.3 0,-14.3 0,-13.7 -3.27,-13.7 ; -3.27,-12.3 0,-12.3 0,-11.7 -3.27,-11.7 ; -3.27,-10.3 0,-10.3 0,-9.7 -3.27,-9.7 ; -3.27,-8.3 0,-8.3 0,-7.7 -3.27,-7.7 ; -3.27,-6.3 0,-6.3 0,-5.7 -3.27,-5.7 ; -3.27,-4.3 0,-4.3 0,-3.7 -3.27,-3.7 ; -3.27,-2.3 0,-2.3 0,-1.7 -3.27,-1.7 ; -3.27,-0.3 0,-0.3 0,0.3 -3.27,0.3 ; -3.27,0.3 -3.27,-19 -9.62,-19 -9.62,1 -3.97,1 -3.27,0.3
  text "'.Designator'" at -5.605,-13.047 h1
Top Courtyard:
  lines w0.254: -10.15,-19.5 1.5,-19.5 1.5,1.5 -10.15,1.5 -10.15,-19.5
Top Designator:
  text ".Designator" at -11.943,-9.508 h1.52

## PinSocket_2x10_P2.00mm_Vertical [mm]
pads (20):
  rect 1.35x1.35 hole 0.8: 1(0,0)
  round 1.35 hole 0.8: 2(-2,0) 3(0,-2) 4(-2,-2) 5(0,-4) 6(-2,-4) 7(0,-6) 8(-2,-6) 9(0,-8) 10(-2,-8) 11(0,-10) 12(-2,-10) 13(0,-12) 14(-2,-12) 15(0,-14) 16(-2,-14) 17(0,-16) 18(-2,-16) 19(0,-18) 20(-2,-18)
F.SilkS:
  lines w0.254: 0,1.06 1.06,1.06 1.06,0 ; -3.06,-19.06 1.06,-19.06 1.06,-1 -1,-1 -1,1.06 -3.06,1.06 -3.06,-19.06
Top Assembly:
  lines w0.254: -3,-19 1,-19 1,0 0,1 -3,1 -3,-19
  text "'.Designator'" at -0.16,-13.047 h1
Top Courtyard:
  lines w0.254: -3.5,-19.5 1.5,-19.5 1.5,1.5 -3.5,1.5 -3.5,-19.5
Top Designator:
  text ".Designator" at -8.618,-9.508 h1.52

## PinSocket_2x10_P2.00mm_Vertical_SMD [mm]
pads (20):
  rect 2.75x1 smd: 1(3.125,9) 2(-3.125,9) 3(3.125,7) 4(-3.125,7) 5(3.125,5) 6(-3.125,5) 7(3.125,3) 8(-3.125,3) 9(3.125,1) 10(-3.125,1) 11(3.125,-1) 12(-3.125,-1) 13(3.125,-3) 14(-3.125,-3) 15(3.125,-5) 16(-3.125,-5) 17(3.125,-7) 18(-3.125,-7) 19(3.125,-9) 20(-3.125,-9)
F.SilkS:
  lines w0.254: -2.06,-9.76 -2.06,-10.06 2.06,-10.06 2.06,-9.76 ; -2.06,-8.24 -2.06,-7.76 ; -2.06,-6.24 -2.06,-5.76 ; -2.06,-4.24 -2.06,-3.76 ; -2.06,-2.24 -2.06,-1.76 ; -2.06,-0.24 -2.06,0.24 ; -2.06,1.76 -2.06,2.24 ; -2.06,3.76 -2.06,4.24 ; -2.06,5.76 -2.06,6.24 ; -2.06,7.76 -2.06,8.24 ; -2.06,9.76 -2.06,10.06 2.06,10.06 2.06,9.76 4.44,9.76 ; 2.06,-8.24 2.06,-7.76 ; 2.06,-6.24 2.06,-5.76 ; 2.06,-4.24 2.06,-3.76 ; 2.06,-2.24 2.06,-1.76 ; 2.06,-0.24 2.06,0.24 ; 2.06,1.76 2.06,2.24 ; 2.06,3.76 2.06,4.24 ; 2.06,5.76 2.06,6.24 ; 2.06,7.76 2.06,8.24
Top Assembly:
  lines w0.254: -2,-9.25 -3,-9.25 -3,-8.75 -2,-8.75 ; -2,-7.25 -3,-7.25 -3,-6.75 -2,-6.75 ; -2,-5.25 -3,-5.25 -3,-4.75 -2,-4.75 ; -2,-3.25 -3,-3.25 -3,-2.75 -2,-2.75 ; -2,-1.25 -3,-1.25 -3,-0.75 -2,-0.75 ; -2,0.75 -3,0.75 -3,1.25 -2,1.25 ; -2,2.75 -3,2.75 -3,3.25 -2,3.25 ; -2,4.75 -3,4.75 -3,5.25 -2,5.25 ; -2,6.75 -3,6.75 -3,7.25 -2,7.25 ; -2,8.75 -3,8.75 -3,9.25 -2,9.25 ; 2,-9.25 3,-9.25 3,-8.75 2,-8.75 ; 2,-7.25 3,-7.25 3,-6.75 2,-6.75 ; 2,-5.25 3,-5.25 3,-4.75 2,-4.75 ; 2,-3.25 3,-3.25 3,-2.75 2,-2.75 ; 2,-1.25 3,-1.25 3,-0.75 2,-0.75 ; 2,0.75 3,0.75 3,1.25 2,1.25 ; 2,2.75 3,2.75 3,3.25 2,3.25 ; 2,4.75 3,4.75 3,5.25 2,5.25 ; 2,6.75 3,6.75 3,7.25 2,7.25 ; 2,8.75 3,8.75 3,9.25 2,9.25 ; -2,-10 2,-10 2,9 1,10 -2,10 -2,-10
  text "'.Designator'" at 0.84,-4.047 h1
Top Courtyard:
  lines w0.254: -5,-10.5 5,-10.5 5,10.5 -5,10.5 -5,-10.5
Top Designator:
  text ".Designator" at -7.618,-0.508 h1.52